# Altium footprint library Resistors.PcbLib: 17 footprints (part 1 of 2)
Each footprint in its own frame and in the unit in brackets; x right, y up, seen from the top. Pads: shape width x height; smd on the part's side, far side on the other; paste and mask are expansions set on the pad; w line width, h text height; cw(c..) or ccw(c..) is an arc to the next point about the centre after c.
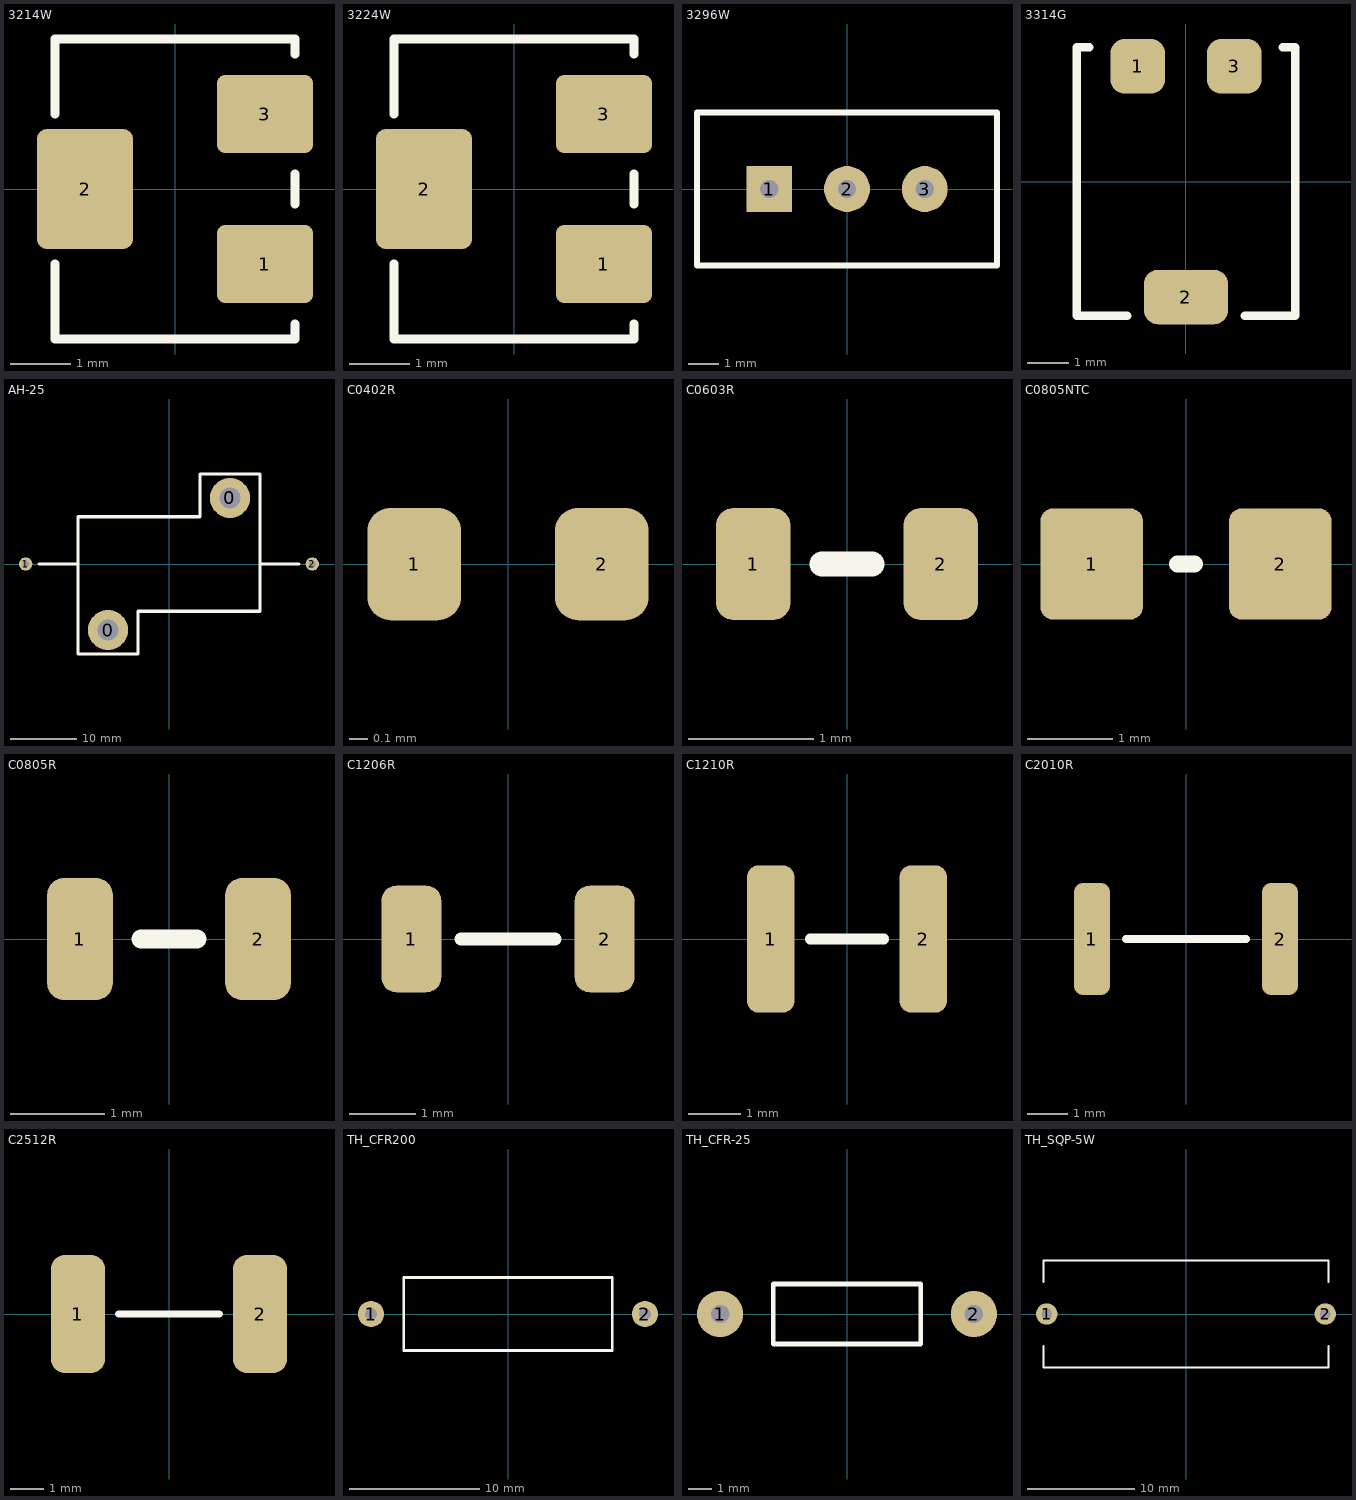
[diagram p0: the footprints below, top view; thin cyan lines are the x and y axes]

## 3214W [mm]
pads (3):
  rrect20% 1.6x1.3 smd: 1(1.5,-1.25) 3(1.5,1.25)
  rrect20% 1.6x2 smd: 2(-1.5,0)
Top Overlay:
  lines w0.15: -2,-1.25 -2,-2.5 2,-2.5 2,-2.25 ; -2,1.25 -2,2.5 2,2.5 2,2.25 ; 2,-0.25 2,0.25
3D body "3214W.step": height 5.1, standoff -0.3, extent -1.97,-2.4 1.97,2.4

## 3224W [mm]
pads (3):
  rrect20% 1.6x1.3 smd: 1(1.5,-1.25) 3(1.5,1.25)
  rrect20% 1.6x2 smd: 2(-1.5,0)
Top Overlay:
  lines w0.15: -2,-1.25 -2,-2.5 2,-2.5 2,-2.25 ; -2,1.25 -2,2.5 2,2.5 2,2.25 ; 2,-0.25 2,0.25
3D body "67469.stp": height 5.29, standoff 0, extent -2,-2.413 1.955,2.413

## 3296W [mm]
pads (3):
  rect 1.5x1.5 hole 0.6: 1(-2.54,0)
  round 1.5 hole 0.6: 2(0,0) 3(2.54,0)
Top Overlay:
  lines w0.2: -4.9,-2.5 -4.9,2.5 4.9,2.5 4.9,-2.5 -4.9,-2.5
3D body "3296W-1-103LF.STEP": height 11.55, standoff -7.72, extent -4.765,-2.41 4.765,2.42

## 3314G [mm]
pads (3):
  rrect50% 1.3x1.3 smd: 1(-1.15,2.75) 3(1.15,2.75)
  rrect50% 2x1.3 smd: 2(0,-2.75)
Top Overlay:
  lines w0.2: -2.3,3.2 -2.6,3.2 -2.6,-3.2 -1.4,-3.2 ; 1.4,-3.2 2.6,-3.2 2.6,3.2 2.3,3.2
3D body "3314g-1-102e.stp": height 2.77, standoff 0.04, extent -2.499,-3.1 2.5,3.098

## AH-25 [mm]
pads (4):
  round 6 hole 3.2: 0(-9.15,-9.9) 0(9.15,9.9)
  round 2 hole 1: 1(-21.5,0) 2(21.5,0)
Top Overlay:
  lines w0.5: -19.5,0 -13.7,0 ; 13.7,0 19.5,0 ; -13.65,-13.5 -4.65,-13.5 -4.65,-7.1 13.65,-7.1 13.65,13.5 4.65,13.5 4.65,7.1 -13.65,7.1 -13.65,-13.5
3D body "User Library-AH-25.step": height 14.02, standoff 0.12, extent -24.5,-13.7 24.5,13.7

## C0402R [mm]
height 0.35
pads (2):
  rrect50% 0.5x0.6 smd: 1(-0.5,0) 2(0.5,0)
3D body "chip_0402_r.STEP": height 0.34, standoff -0.02, extent -0.525,-0.25 0.475,0.25

## C0603R [mm]
height 0.45
pads (2):
  rrect50% 0.6x0.9 smd: 1(-0.75,0) 2(0.75,0)
Top Overlay:
  lines w0.2: -0.2,0 0.2,0
3D body "chip_0603_r.STEP": height 0.44, standoff -0.02, extent -0.8,-0.4 0.8,0.4

## C0805NTC [mm]
height 0.45
pads (2):
  rrect25% 1.2x1.3 smd: 1(-1.1,0) 2(1.1,0)
Top Overlay:
  lines w0.2: -0.1,0 0.1,0
3D body "ntcs0805e3103jmt.stp": height 0.8, standoff 0, extent -1,-0.625 1,0.625

## C0805R [mm]
height 0.45
pads (2):
  rrect50% 0.7x1.3 smd: 1(-0.95,0) 2(0.95,0)
Top Overlay:
  lines w0.2: -0.3,0 0.3,0
3D body "chip_0805_r.STEP": height 0.44, standoff -0.02, extent -1,-0.6 1,0.6

## C1206R [mm]
height 0.6
pads (2):
  rrect50% 0.9x1.6 smd: 1(-1.45,0) 2(1.45,0)
Top Overlay:
  lines w0.2: -0.7,0 0.7,0
3D body "chip_1206_r.STEP": height 0.47, standoff -0.03, extent -1.65,-0.8 1.55,0.8

## C1210R [mm]
pads (2):
  rrect50% 0.9x2.8 smd: 1(-1.45,0) 2(1.45,0)
Top Overlay:
  lines w0.2: -0.7,0 0.7,0
3D body "User Library-R_1210.STEP": height 0.6, standoff 0, extent -1.6,-1.25 1.6,1.25

## C2010R [mm]
height 0.55
pads (2):
  rrect50% 0.9x2.8 smd: 1(-2.35,0) 2(2.35,0)
Top Overlay:
  lines w0.2: -1.5,0 1.5,0
3D body "User Library-R_2010.STEP": height 0.6, standoff 0, extent -2.5,-1.25 2.5,1.25

## C2512R [mm]
height 0.55
pads (2):
  rrect50% 1.6x3.5 smd: 1(-2.7,0) 2(2.7,0)
Top Overlay:
  lines w0.2: -1.5,0 1.5,0
3D body "chip_2512_r.STEP": height 0.52, standoff -0.04, extent -3.175,-1.6 3.175,1.6

## TH_CFR200 [mm]
pads (2):
  round 2 hole 0.9: 1(-10.5,0) 2(10.5,0)
Top Overlay:
  lines w0.2: -8,-2.8 8,-2.8 8,2.8 -8,2.8 -8,-2.8
3D body "User Library-RES-2W.STEP": height 5.5, standoff -3, extent -10.51,-2.75 10.51,2.75

## TH_CFR-25 [mm]
pads (2):
  round 2 hole 0.8: 1(-5.5,0) 2(5.5,0)
Top Overlay:
  lines w0.2: -3.2,-1.3 -3.2,1.3 3.2,1.3 3.2,-1.3 -3.2,-1.3
3D body "CFR-25JB-52-47R.STEP": height 2.6, standoff -25.52, extent -5.775,-1.3 5.775,1.3

## TH_SQP-5W [mm]
pads (2):
  round 2 hole 1: 1(-13,0) 2(13,0)
Top Overlay:
  lines w0.2: -13.3,-3 -13.3,-5 0,-5 13.3,-5 13.3,-3 ; -13.3,3 -13.3,5 0,5 13.3,5 13.3,3
3D body "User Library-SQP-5W.step": height 9.21, standoff -2.5, extent -13.2,-4.85 13.2,4.85